# EAGLE library part VREG_SW_MC33063ADR (library SCADA_CUSTOM_LIBRARY)
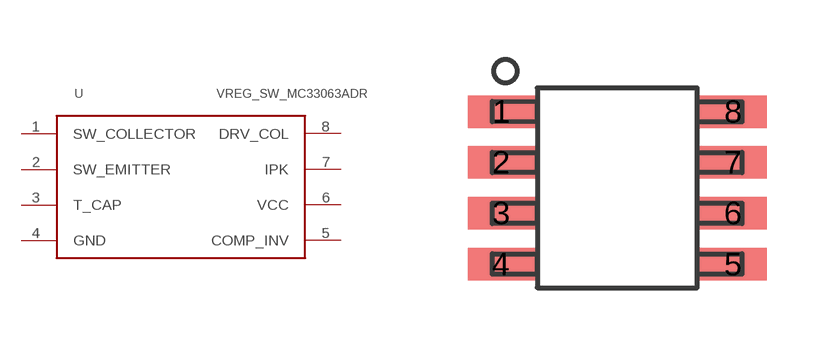
[diagram p5: symbol with the pads of 8-SOIC_HAND_SOLDER; footprint 8-SOIC_HAND_SOLDER]

Designator prefix U

## VREG_SW_MC33063ADR  [8-SOIC_HAND_SOLDER]
1  SW_COLLECTOR  in
2  SW_EMITTER  out
3  T_CAP
4  GND
5  COMP_INV  in
6  VCC  in
7  IPK
8  DRV_COL  in

## Footprint 8-SOIC_HAND_SOLDER (pad centres in mm)
smd 1.676 x 0.813: 1 -2.9,1.91; 2 -2.9,0.64; 3 -2.9,-0.63; 4 -2.9,-1.91; 5 2.9,-1.91; 6 2.9,-0.63; 7 2.9,0.64; 8 2.9,1.91